# EAGLE library part STM32_BLUEPILL (library stm32_bluepill)
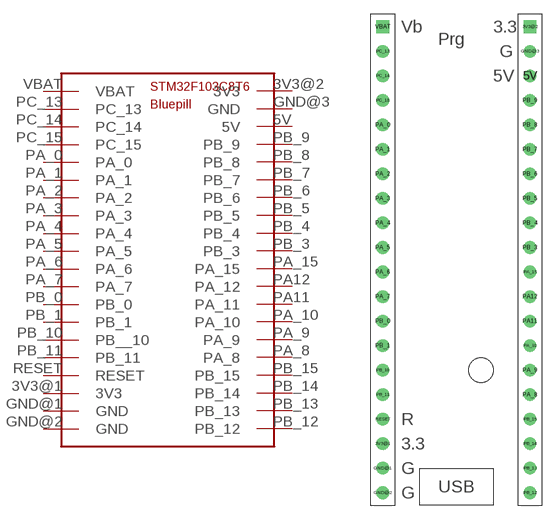
[diagram p0: symbol with the pads of STM32_BLUEPILL; footprint STM32_BLUEPILL]

Designator prefix -

## STM32_BLUEPILL  [STM32_BLUEPILL]
3V3@1  3V3
3V3@2  3V3
5V  5V
GND@1  GND
GND@2  GND
GND@3  GND
PA11  PA_11
PA12  PA_12
PA_0  PA_0
PA_1  PA_1
PA_2  PA_2
PA_3  PA_3
PA_4  PA_4
PA_5  PA_5
PA_6  PA_6
PA_7  PA_7
PA_8  PA_8
PA_9  PA_9
PA_10  PA_10
PA_15  PA_15
PB_0  PB_0
PB_1  PB_1
PB_3  PB_3
PB_4  PB_4
PB_5  PB_5
PB_6  PB_6
PB_7  PB_7
PB_8  PB_8
PB_9  PB_9
PB_10  PB__10
PB_11  PB_11
PB_12  PB_12
PB_13  PB_13
PB_14  PB_14
PB_15  PB_15
PC_13  PC_13
PC_14  PC_14
PC_15  PC_15
RESET  RESET
VBAT  VBAT

## Footprint STM32_BLUEPILL (pad centres in mm)
drill 0.8: 3V3@1 -7.62,-19.05; 5V 7.62,19.05; GND@1 -7.62,-21.59; GND@2 -7.62,-24.13; GND@3 7.62,21.59; PA11 7.62,-6.35; PA12 7.62,-3.81; PA_0 -7.62,13.97; PA_1 -7.62,11.43; PA_2 -7.62,8.89; PA_3 -7.62,6.35; PA_4 -7.62,3.81; PA_5 -7.62,1.27; PA_6 -7.62,-1.27; PA_7 -7.62,-3.81; PA_8 7.62,-13.97; PA_9 7.62,-11.43; PA_10 7.62,-8.89; PA_15 7.62,-1.27; PB_0 -7.62,-6.35; PB_1 -7.62,-8.89; PB_3 7.62,1.27; PB_4 7.62,3.81; PB_5 7.62,6.35; PB_6 7.62,8.89; PB_7 7.62,11.43; PB_8 7.62,13.97; PB_9 7.62,16.51; PB_10 -7.62,-11.43; PB_11 -7.62,-13.97; PB_12 7.62,-24.13; PB_13 7.62,-21.59; PB_14 7.62,-19.05; PB_15 7.62,-16.51; PC_13 -7.62,21.59; PC_14 -7.62,19.05; PC_15 -7.62,16.51; RESET -7.62,-16.51
drill 0.8 square: 3V3@2 7.62,24.13; VBAT -7.62,24.13